# Altium integrated library TI_Logic_Specialty_Logic.IntLib: 2504 symbols (part 81 of 81)
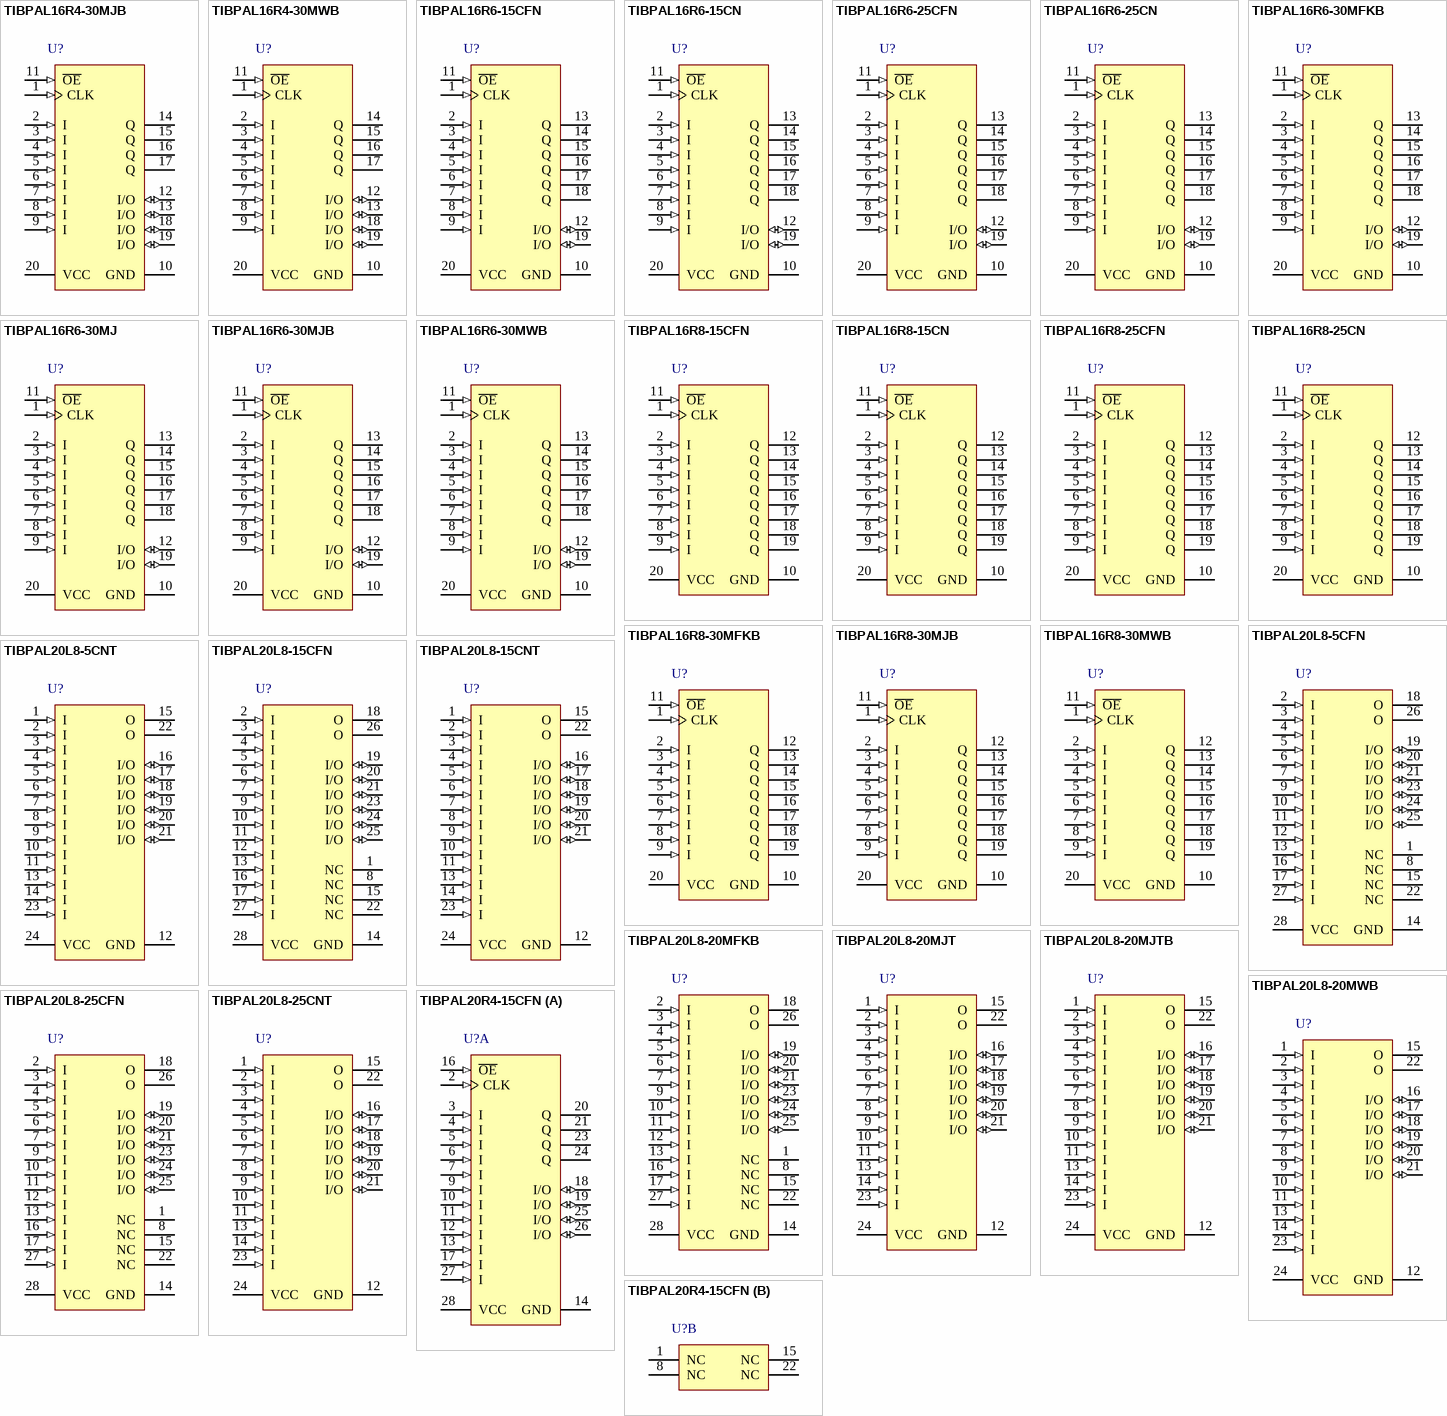
[diagram p184: symbols TIBPAL16R4-30MJB to TIBPAL20R4-15CFN]

## TIBPAL20L8-5CNT
designator U?
High-Performance Impact-X<TM> PAL<R> Circuits, NT0024A, TUBE; Generic Part Number: TIBPAL20L8-5C; Manufacturer: Texas Instruments; PartNumber: TIBPAL20L8-5CNT; DatasheetVersion: SRPS010F; PackageReference: NT0024A; Supplier 1: Mouser; Supplier Part Number 1: 595-TIBPAL20L8-5CNT; Supplier 2: Digi-Key; Supplier Part Number 2: 296-10102-5-ND; Mounting Technology: Through Hole; ComponentLink1Description: Manufacturer URL; ComponentLink1URL: http://www.ti.com/; ComponentLink2Description: Datasheet; ComponentLink2URL: http://www.ti.com/lit/ds/symlink/tibpal20l8-5c.pdf
footprint NT0024A (DIP, 24-Leads, Body 32.05x7.1mm, Pitch 2.54mm)
pins: 1 I (in), 2 I (in), 3 I (in), 4 I (in), 5 I (in), 6 I (in), 7 I (in), 8 I (in), 9 I (in), 10 I (in), 11 I (in), 12 GND (power), 13 I (in), 14 I (in), 15 O (hiz), 16 I/O (io), 17 I/O (io), 18 I/O (io), 19 I/O (io), 20 I/O (io), 21 I/O (io), 22 O (hiz), 23 I (in), 24 VCC (power)

## TIBPAL20L8-15CFN
designator U?
High-Performance Impact<TM> PAL<R> Circuits, FN0028A, TUBE; Generic Part Number: TIBPAL20L8-15C; Manufacturer: Texas Instruments; PartNumber: TIBPAL20L8-15CFN; DatasheetVersion: SRPS021A; PackageReference: FN0028A; Supplier 1: Mouser; Supplier Part Number 1: 595-TIBPAL20L8-15CFN; Supplier 2: Digi-Key; Supplier Part Number 2: 296-10100-5-ND; ComponentLink1Description: Manufacturer URL; ComponentLink1URL: http://www.ti.com/; ComponentLink2Description: Datasheet; ComponentLink2URL: http://www.ti.com/lit/ds/symlink/tibpal20l8-15c.pdf
footprint FN0028A_N (Leaded Chip Carrier, 28-Leads, Body 11.58x11.58mm, Pitch 1.27mm, IPC Medium Density)
footprint FN0028A_M (Leaded Chip Carrier, 28-Leads, Body 11.58x11.58mm, Pitch 1.27mm, IPC Low Density)
footprint FN0028A_L (Leaded Chip Carrier, 28-Leads, Body 11.58x11.58mm, Pitch 1.27mm, IPC High Density)
pins: 1 NC, 2 I (in), 3 I (in), 4 I (in), 5 I (in), 6 I (in), 7 I (in), 8 NC, 9 I (in), 10 I (in), 11 I (in), 12 I (in), 13 I (in), 14 GND (power), 15 NC, 16 I (in), 17 I (in), 18 O (hiz), 19 I/O (io), 20 I/O (io), 21 I/O (io), 22 NC, 23 I/O (io), 24 I/O (io), 25 I/O (io), 26 O (hiz), 27 I (in), 28 VCC (power)

## TIBPAL20L8-15CNT
designator U?
High-Performance Impact<TM> PAL<R> Circuits, NT0024A, TUBE; Generic Part Number: TIBPAL20L8-15C; Manufacturer: Texas Instruments; PartNumber: TIBPAL20L8-15CNT; DatasheetVersion: SRPS021A; PackageReference: NT0024A; Supplier 1: Mouser; Supplier Part Number 1: 595-TIBPAL20L8-15CNT; Supplier 2: Digi-Key; Supplier Part Number 2: 296-26687-5-ND; Mounting Technology: Through Hole; ComponentLink1Description: Manufacturer URL; ComponentLink1URL: http://www.ti.com/; ComponentLink2Description: Datasheet; ComponentLink2URL: http://www.ti.com/lit/ds/symlink/tibpal20l8-15c.pdf
footprint NT0024A (DIP, 24-Leads, Body 32.05x7.1mm, Pitch 2.54mm)
pins: 1 I (in), 2 I (in), 3 I (in), 4 I (in), 5 I (in), 6 I (in), 7 I (in), 8 I (in), 9 I (in), 10 I (in), 11 I (in), 12 GND (power), 13 I (in), 14 I (in), 15 O (hiz), 16 I/O (io), 17 I/O (io), 18 I/O (io), 19 I/O (io), 20 I/O (io), 21 I/O (io), 22 O (hiz), 23 I (in), 24 VCC (power)

## TIBPAL20L8-20MFKB
designator U?
High-Performance Impact<TM> PAL<R> Circuits, FK0028A, TUBE; Generic Part Number: TIBPAL20L8-20M; Manufacturer: Texas Instruments; PartNumber: TIBPAL20L8-20MFKB; Voltage Node(Nom)(V): 5; Rating: Military; DatasheetVersion: SRPS021A; PackageReference: FK0028A; Operating Temperature Range(C): -55 to 125; Code_JEDEC: MS-004; ComponentLink1Description: Manufacturer URL; ComponentLink1URL: http://www.ti.com/; ComponentLink2Description: Datasheet; ComponentLink2URL: http://www.ti.com/lit/ds/symlink/tibpal20l8-20m.pdf; ComponentLink3Description: Package Specification; ComponentLink3URL: http://www.ti.com/lit/ml/mlcc006d/mlcc006d.pdf
footprint FD0028A_N (LCC, 28-Leads, Body 11.43x11.43mm, Pitch 1.27mm, IPC Medium Density)
footprint FD0028A_M (LCC, 28-Leads, Body 11.43x11.43mm, Pitch 1.27mm, IPC Low Density)
footprint FD0028A_L (LCC, 28-Leads, Body 11.43x11.43mm, Pitch 1.27mm, IPC High Density)
pins: 1 NC, 2 I (in), 3 I (in), 4 I (in), 5 I (in), 6 I (in), 7 I (in), 8 NC, 9 I (in), 10 I (in), 11 I (in), 12 I (in), 13 I (in), 14 GND (power), 15 NC, 16 I (in), 17 I (in), 18 O (hiz), 19 I/O (io), 20 I/O (io), 21 I/O (io), 22 NC, 23 I/O (io), 24 I/O (io), 25 I/O (io), 26 O (hiz), 27 I (in), 28 VCC (power)

## TIBPAL20L8-20MJT
designator U?
High-Performance Impact<TM> PAL<R> Circuits, JT0024A, TUBE; Generic Part Number: TIBPAL20L8-20M; Manufacturer: Texas Instruments; PartNumber: TIBPAL20L8-20MJT; Voltage Node(Nom)(V): 5; Rating: Military; DatasheetVersion: SRPS021A; PackageReference: JT0024A; Operating Temperature Range(C): -55 to 125; ComponentLink1Description: Manufacturer URL; ComponentLink1URL: http://www.ti.com/; ComponentLink2Description: Datasheet; ComponentLink2URL: http://www.ti.com/lit/ds/symlink/tibpal20l8-20m.pdf
footprint JT0024A (DIP, 24-Leads, Body 7.2x32.5mm, Pitch 2.54mm)
pins: 1 I (in), 2 I (in), 3 I (in), 4 I (in), 5 I (in), 6 I (in), 7 I (in), 8 I (in), 9 I (in), 10 I (in), 11 I (in), 12 GND (power), 13 I (in), 14 I (in), 15 O (hiz), 16 I/O (io), 17 I/O (io), 18 I/O (io), 19 I/O (io), 20 I/O (io), 21 I/O (io), 22 O (hiz), 23 I (in), 24 VCC (power)

## TIBPAL20L8-20MJTB
designator U?
High-Performance Impact<TM> PAL<R> Circuits, JT0024A, TUBE; Generic Part Number: TIBPAL20L8-20M; Manufacturer: Texas Instruments; PartNumber: TIBPAL20L8-20MJTB; Voltage Node(Nom)(V): 5; Rating: Military; DatasheetVersion: SRPS021A; PackageReference: JT0024A; Operating Temperature Range(C): -55 to 125; ComponentLink1Description: Manufacturer URL; ComponentLink1URL: http://www.ti.com/; ComponentLink2Description: Datasheet; ComponentLink2URL: http://www.ti.com/lit/ds/symlink/tibpal20l8-20m.pdf
footprint JT0024A (DIP, 24-Leads, Body 7.2x32.5mm, Pitch 2.54mm)
pins: 1 I (in), 2 I (in), 3 I (in), 4 I (in), 5 I (in), 6 I (in), 7 I (in), 8 I (in), 9 I (in), 10 I (in), 11 I (in), 12 GND (power), 13 I (in), 14 I (in), 15 O (hiz), 16 I/O (io), 17 I/O (io), 18 I/O (io), 19 I/O (io), 20 I/O (io), 21 I/O (io), 22 O (hiz), 23 I (in), 24 VCC (power)

## TIBPAL20L8-20MWB
designator U?
High-Performance Impact<TM> PAL<R> Circuits, W0024A, TUBE; Generic Part Number: TIBPAL20L8-20M; Manufacturer: Texas Instruments; PartNumber: TIBPAL20L8-20MWB; Voltage Node(Nom)(V): 5; Rating: Military; DatasheetVersion: SRPS021A; PackageReference: W0024A; Operating Temperature Range(C): -55 to 125; ComponentLink1Description: Manufacturer URL; ComponentLink1URL: http://www.ti.com/; ComponentLink2Description: Datasheet; ComponentLink2URL: http://www.ti.com/lit/ds/symlink/tibpal20l8-20m.pdf
footprint W0024A_N (CFP, 24-Leads, Body 16.26x9.53mm, Pitch 1.27mm, IPC Medium Density)
footprint W0024A_M (CFP, 24-Leads, Body 16.26x9.53mm, Pitch 1.27mm, IPC Low Density)
footprint W0024A_L (CFP, 24-Leads, Body 16.26x9.53mm, Pitch 1.27mm, IPC High Density)
pins: 1 I (in), 2 I (in), 3 I (in), 4 I (in), 5 I (in), 6 I (in), 7 I (in), 8 I (in), 9 I (in), 10 I (in), 11 I (in), 12 GND (power), 13 I (in), 14 I (in), 15 O (hiz), 16 I/O (io), 17 I/O (io), 18 I/O (io), 19 I/O (io), 20 I/O (io), 21 I/O (io), 22 O (hiz), 23 I (in), 24 VCC (power)

## TIBPAL20L8-25CFN
designator U?
Low-Power High-Performance Impact<TM> PAL<R> Circuits, FN0028A, TUBE; Generic Part Number: TIBPAL20L8-25C; Manufacturer: Texas Instruments; PartNumber: TIBPAL20L8-25CFN; DatasheetVersion: SRPS022A; PackageReference: FN0028A; Supplier 1: Mouser; Supplier Part Number 1: 595-TIBPAL20L8-25CFN; Supplier 2: Digi-Key; Supplier Part Number 2: 296-34240-5-ND; ComponentLink1Description: Manufacturer URL; ComponentLink1URL: http://www.ti.com/; ComponentLink2Description: Datasheet; ComponentLink2URL: http://www.ti.com/lit/ds/symlink/tibpal20l8-25c.pdf
footprint FN0028A_N (Leaded Chip Carrier, 28-Leads, Body 11.58x11.58mm, Pitch 1.27mm, IPC Medium Density)
footprint FN0028A_M (Leaded Chip Carrier, 28-Leads, Body 11.58x11.58mm, Pitch 1.27mm, IPC Low Density)
footprint FN0028A_L (Leaded Chip Carrier, 28-Leads, Body 11.58x11.58mm, Pitch 1.27mm, IPC High Density)
pins: 1 NC, 2 I (in), 3 I (in), 4 I (in), 5 I (in), 6 I (in), 7 I (in), 8 NC, 9 I (in), 10 I (in), 11 I (in), 12 I (in), 13 I (in), 14 GND (power), 15 NC, 16 I (in), 17 I (in), 18 O (hiz), 19 I/O (io), 20 I/O (io), 21 I/O (io), 22 NC, 23 I/O (io), 24 I/O (io), 25 I/O (io), 26 O (hiz), 27 I (in), 28 VCC (power)

## TIBPAL20L8-25CNT
designator U?
Low-Power High-Performance Impact<TM> PAL<R> Circuits, NT0024A, TUBE; Generic Part Number: TIBPAL20L8-25C; Manufacturer: Texas Instruments; PartNumber: TIBPAL20L8-25CNT; DatasheetVersion: SRPS022A; PackageReference: NT0024A; Supplier 1: Mouser; Supplier Part Number 1: 595-TIBPAL20L8-25CNT; Supplier 2: Digi-Key; Supplier Part Number 2: 296-26688-5-ND; Mounting Technology: Through Hole; ComponentLink1Description: Manufacturer URL; ComponentLink1URL: http://www.ti.com/; ComponentLink2Description: Datasheet; ComponentLink2URL: http://www.ti.com/lit/ds/symlink/tibpal20l8-25c.pdf
footprint NT0024A (DIP, 24-Leads, Body 32.05x7.1mm, Pitch 2.54mm)
pins: 1 I (in), 2 I (in), 3 I (in), 4 I (in), 5 I (in), 6 I (in), 7 I (in), 8 I (in), 9 I (in), 10 I (in), 11 I (in), 12 GND (power), 13 I (in), 14 I (in), 15 O (hiz), 16 I/O (io), 17 I/O (io), 18 I/O (io), 19 I/O (io), 20 I/O (io), 21 I/O (io), 22 O (hiz), 23 I (in), 24 VCC (power)

## TIBPAL20R4-15CFN
designator U?
High-Performance Impact<TM> PAL<R> Circuits, FN0028A, TUBE; Generic Part Number: TIBPAL20R4-15C; Manufacturer: Texas Instruments; PartNumber: TIBPAL20R4-15CFN; DatasheetVersion: SRPS021A; PackageReference: FN0028A; Supplier 1: Mouser; Supplier Part Number 1: 595-TIBPAL20R4-15CFN; Supplier 2: Digi-Key; Supplier Part Number 2: TIBPAL20R4-15CFN-ND; ComponentLink1Description: Manufacturer URL; ComponentLink1URL: http://www.ti.com/; ComponentLink2Description: Datasheet; ComponentLink2URL: http://www.ti.com/lit/ds/symlink/tibpal20r4-15c.pdf
footprint FN0028A_N (Leaded Chip Carrier, 28-Leads, Body 11.58x11.58mm, Pitch 1.27mm, IPC Medium Density)
footprint FN0028A_M (Leaded Chip Carrier, 28-Leads, Body 11.58x11.58mm, Pitch 1.27mm, IPC Low Density)
footprint FN0028A_L (Leaded Chip Carrier, 28-Leads, Body 11.58x11.58mm, Pitch 1.27mm, IPC High Density)
part A pins: 2 CLK (in), 3 I (in), 4 I (in), 5 I (in), 6 I (in), 7 I (in), 9 I (in), 10 I (in), 11 I (in), 12 I (in), 13 I (in), 14 GND (power), 16 ~{OE} (in), 17 I (in), 18 I/O (io), 19 I/O (io), 20 Q (hiz), 21 Q (hiz), 23 Q (hiz), 24 Q (hiz), 25 I/O (io), 26 I/O (io), 27 I (in), 28 VCC (power)
part B pins: 1 NC, 8 NC, 15 NC, 22 NC

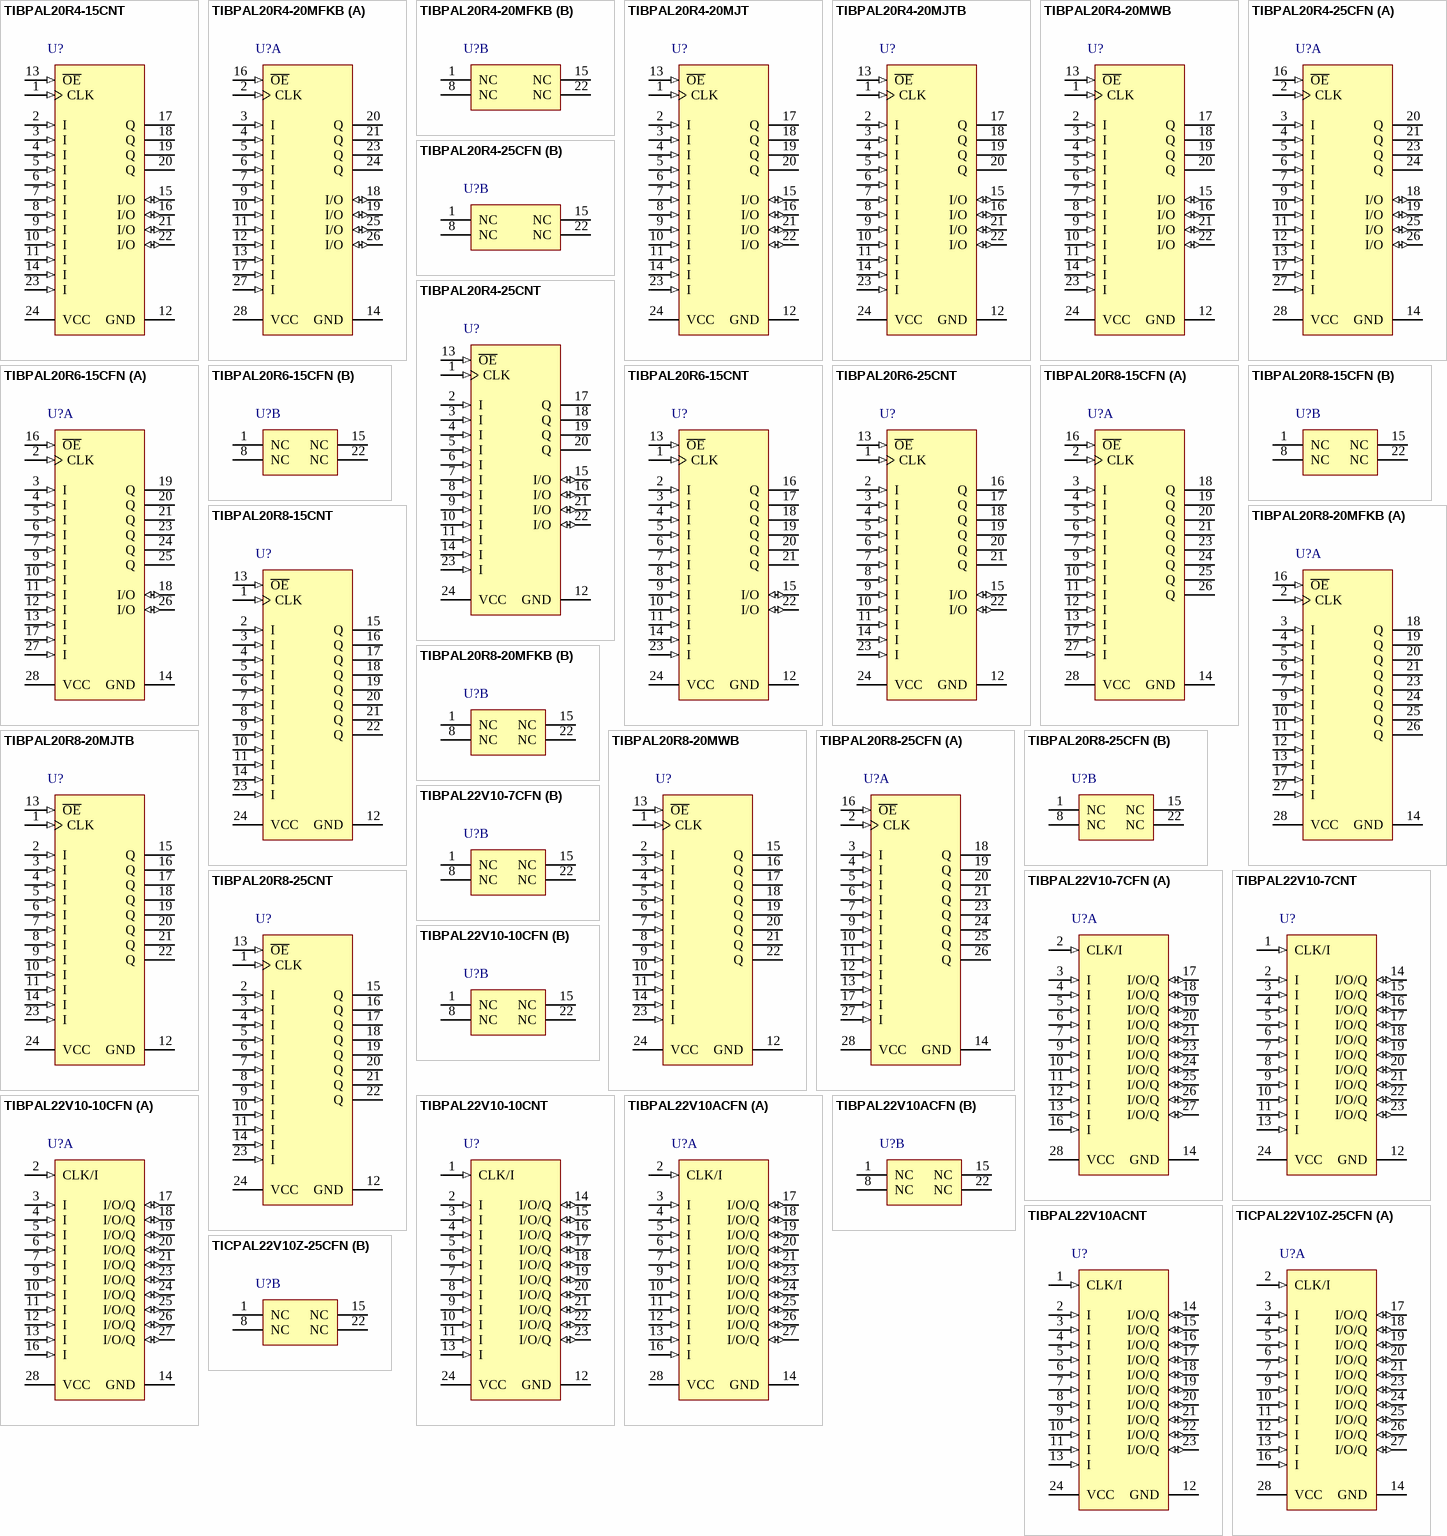
[diagram p103: symbols TIBPAL20R4-15CNT to TICPAL22V10Z-25CFN]

## TIBPAL20R4-15CNT
designator U?
High-Performance Impact<TM> PAL<R> Circuits, NT0024A, TUBE; Generic Part Number: TIBPAL20R4-15C; Manufacturer: Texas Instruments; PartNumber: TIBPAL20R4-15CNT; DatasheetVersion: SRPS021A; PackageReference: NT0024A; Supplier 1: Mouser; Supplier Part Number 1: 595-TIBPAL20R4-15CNT; Supplier 2: Digi-Key; Supplier Part Number 2: 296-10103-5-ND; Mounting Technology: Through Hole; ComponentLink1Description: Manufacturer URL; ComponentLink1URL: http://www.ti.com/; ComponentLink2Description: Datasheet; ComponentLink2URL: http://www.ti.com/lit/ds/symlink/tibpal20r4-15c.pdf
footprint NT0024A (DIP, 24-Leads, Body 32.05x7.1mm, Pitch 2.54mm)
pins: 1 CLK (in), 2 I (in), 3 I (in), 4 I (in), 5 I (in), 6 I (in), 7 I (in), 8 I (in), 9 I (in), 10 I (in), 11 I (in), 12 GND (power), 13 ~{OE} (in), 14 I (in), 15 I/O (io), 16 I/O (io), 17 Q (hiz), 18 Q (hiz), 19 Q (hiz), 20 Q (hiz), 21 I/O (io), 22 I/O (io), 23 I (in), 24 VCC (power)

## TIBPAL20R4-20MFKB
designator U?
High-Performance Impact<TM> PAL<R> Circuits, FK0028A, TUBE; Generic Part Number: TIBPAL20R4-20M; Manufacturer: Texas Instruments; PartNumber: TIBPAL20R4-20MFKB; Voltage Node(Nom)(V): 5; Rating: Military; DatasheetVersion: SRPS021A; PackageReference: FK0028A; Operating Temperature Range(C): -55 to 125; Code_JEDEC: MS-004; ComponentLink1Description: Manufacturer URL; ComponentLink1URL: http://www.ti.com/; ComponentLink2Description: Datasheet; ComponentLink2URL: http://www.ti.com/lit/ds/symlink/tibpal20r4-20m.pdf; ComponentLink3Description: Package Specification; ComponentLink3URL: http://www.ti.com/lit/ml/mlcc006d/mlcc006d.pdf
footprint FD0028A_N (LCC, 28-Leads, Body 11.43x11.43mm, Pitch 1.27mm, IPC Medium Density)
footprint FD0028A_M (LCC, 28-Leads, Body 11.43x11.43mm, Pitch 1.27mm, IPC Low Density)
footprint FD0028A_L (LCC, 28-Leads, Body 11.43x11.43mm, Pitch 1.27mm, IPC High Density)
part A pins: 2 CLK (in), 3 I (in), 4 I (in), 5 I (in), 6 I (in), 7 I (in), 9 I (in), 10 I (in), 11 I (in), 12 I (in), 13 I (in), 14 GND (power), 16 ~{OE} (in), 17 I (in), 18 I/O (io), 19 I/O (io), 20 Q (hiz), 21 Q (hiz), 23 Q (hiz), 24 Q (hiz), 25 I/O (io), 26 I/O (io), 27 I (in), 28 VCC (power)
part B pins: 1 NC, 8 NC, 15 NC, 22 NC

## TIBPAL20R4-20MJT
designator U?
High-Performance Impact<TM> PAL<R> Circuits, JT0024A, TUBE; Generic Part Number: TIBPAL20R4-20M; Manufacturer: Texas Instruments; PartNumber: TIBPAL20R4-20MJT; Voltage Node(Nom)(V): 5; Rating: Military; DatasheetVersion: SRPS021A; PackageReference: JT0024A; Operating Temperature Range(C): -55 to 125; ComponentLink1Description: Manufacturer URL; ComponentLink1URL: http://www.ti.com/; ComponentLink2Description: Datasheet; ComponentLink2URL: http://www.ti.com/lit/ds/symlink/tibpal20r4-20m.pdf
footprint JT0024A (DIP, 24-Leads, Body 7.2x32.5mm, Pitch 2.54mm)
pins: 1 CLK (in), 2 I (in), 3 I (in), 4 I (in), 5 I (in), 6 I (in), 7 I (in), 8 I (in), 9 I (in), 10 I (in), 11 I (in), 12 GND (power), 13 ~{OE} (in), 14 I (in), 15 I/O (io), 16 I/O (io), 17 Q (hiz), 18 Q (hiz), 19 Q (hiz), 20 Q (hiz), 21 I/O (io), 22 I/O (io), 23 I (in), 24 VCC (power)

## TIBPAL20R4-20MJTB
designator U?
High-Performance Impact<TM> PAL<R> Circuits, JT0024A, TUBE; Generic Part Number: TIBPAL20R4-20M; Manufacturer: Texas Instruments; PartNumber: TIBPAL20R4-20MJTB; Voltage Node(Nom)(V): 5; Rating: Military; DatasheetVersion: SRPS021A; PackageReference: JT0024A; Operating Temperature Range(C): -55 to 125; ComponentLink1Description: Manufacturer URL; ComponentLink1URL: http://www.ti.com/; ComponentLink2Description: Datasheet; ComponentLink2URL: http://www.ti.com/lit/ds/symlink/tibpal20r4-20m.pdf
footprint JT0024A (DIP, 24-Leads, Body 7.2x32.5mm, Pitch 2.54mm)
pins: 1 CLK (in), 2 I (in), 3 I (in), 4 I (in), 5 I (in), 6 I (in), 7 I (in), 8 I (in), 9 I (in), 10 I (in), 11 I (in), 12 GND (power), 13 ~{OE} (in), 14 I (in), 15 I/O (io), 16 I/O (io), 17 Q (hiz), 18 Q (hiz), 19 Q (hiz), 20 Q (hiz), 21 I/O (io), 22 I/O (io), 23 I (in), 24 VCC (power)

## TIBPAL20R4-20MWB
designator U?
High-Performance Impact<TM> PAL<R> Circuits, W0024A, TUBE; Generic Part Number: TIBPAL20R4-20M; Manufacturer: Texas Instruments; PartNumber: TIBPAL20R4-20MWB; Voltage Node(Nom)(V): 5; Rating: Military; DatasheetVersion: SRPS021A; PackageReference: W0024A; Operating Temperature Range(C): -55 to 125; ComponentLink1Description: Manufacturer URL; ComponentLink1URL: http://www.ti.com/; ComponentLink2Description: Datasheet; ComponentLink2URL: http://www.ti.com/lit/ds/symlink/tibpal20r4-20m.pdf
footprint W0024A_N (CFP, 24-Leads, Body 16.26x9.53mm, Pitch 1.27mm, IPC Medium Density)
footprint W0024A_M (CFP, 24-Leads, Body 16.26x9.53mm, Pitch 1.27mm, IPC Low Density)
footprint W0024A_L (CFP, 24-Leads, Body 16.26x9.53mm, Pitch 1.27mm, IPC High Density)
pins: 1 CLK (in), 2 I (in), 3 I (in), 4 I (in), 5 I (in), 6 I (in), 7 I (in), 8 I (in), 9 I (in), 10 I (in), 11 I (in), 12 GND (power), 13 ~{OE} (in), 14 I (in), 15 I/O (io), 16 I/O (io), 17 Q (hiz), 18 Q (hiz), 19 Q (hiz), 20 Q (hiz), 21 I/O (io), 22 I/O (io), 23 I (in), 24 VCC (power)

## TIBPAL20R4-25CFN
designator U?
Low-Power High-Performance Impact<TM> PAL<R> Circuits, FN0028A, TUBE; Generic Part Number: TIBPAL20R4-25C; Manufacturer: Texas Instruments; PartNumber: TIBPAL20R4-25CFN; DatasheetVersion: SRPS022A; PackageReference: FN0028A; Supplier 1: Mouser; Supplier Part Number 1: 595-TIBPAL20R4-25CFN; Supplier 2: Digi-Key; Supplier Part Number 2: TIBPAL20R4-25CFN-ND; ComponentLink1Description: Manufacturer URL; ComponentLink1URL: http://www.ti.com/; ComponentLink2Description: Datasheet; ComponentLink2URL: http://www.ti.com/lit/ds/symlink/tibpal20r4-25c.pdf
footprint FN0028A_N (Leaded Chip Carrier, 28-Leads, Body 11.58x11.58mm, Pitch 1.27mm, IPC Medium Density)
footprint FN0028A_M (Leaded Chip Carrier, 28-Leads, Body 11.58x11.58mm, Pitch 1.27mm, IPC Low Density)
footprint FN0028A_L (Leaded Chip Carrier, 28-Leads, Body 11.58x11.58mm, Pitch 1.27mm, IPC High Density)
part A pins: 2 CLK (in), 3 I (in), 4 I (in), 5 I (in), 6 I (in), 7 I (in), 9 I (in), 10 I (in), 11 I (in), 12 I (in), 13 I (in), 14 GND (power), 16 ~{OE} (in), 17 I (in), 18 I/O (io), 19 I/O (io), 20 Q (hiz), 21 Q (hiz), 23 Q (hiz), 24 Q (hiz), 25 I/O (io), 26 I/O (io), 27 I (in), 28 VCC (power)
part B pins: 1 NC, 8 NC, 15 NC, 22 NC

## TIBPAL20R4-25CNT
designator U?
Low-Power High-Performance Impact<TM> PAL<R> Circuits, NT0024A, TUBE; Generic Part Number: TIBPAL20R4-25C; Manufacturer: Texas Instruments; PartNumber: TIBPAL20R4-25CNT; DatasheetVersion: SRPS022A; PackageReference: NT0024A; Supplier 1: Mouser; Supplier Part Number 1: 595-TIBPAL20R4-25CNT; Supplier 2: Digi-Key; Supplier Part Number 2: 296-10104-5-ND; Mounting Technology: Through Hole; ComponentLink1Description: Manufacturer URL; ComponentLink1URL: http://www.ti.com/; ComponentLink2Description: Datasheet; ComponentLink2URL: http://www.ti.com/lit/ds/symlink/tibpal20r4-25c.pdf
footprint NT0024A (DIP, 24-Leads, Body 32.05x7.1mm, Pitch 2.54mm)
pins: 1 CLK (in), 2 I (in), 3 I (in), 4 I (in), 5 I (in), 6 I (in), 7 I (in), 8 I (in), 9 I (in), 10 I (in), 11 I (in), 12 GND (power), 13 ~{OE} (in), 14 I (in), 15 I/O (io), 16 I/O (io), 17 Q (hiz), 18 Q (hiz), 19 Q (hiz), 20 Q (hiz), 21 I/O (io), 22 I/O (io), 23 I (in), 24 VCC (power)

## TIBPAL20R6-15CFN
designator U?
High-Performance Impact<TM> PAL<R> Circuits, FN0028A, TUBE; Generic Part Number: TIBPAL20R6-15C; Manufacturer: Texas Instruments; PartNumber: TIBPAL20R6-15CFN; DatasheetVersion: SRPS021A; PackageReference: FN0028A; Supplier 1: Mouser; Supplier Part Number 1: 595-TIBPAL20R6-15CFN; Supplier 2: Digi-Key; Supplier Part Number 2: TIBPAL20R6-15CFN-ND; ComponentLink1Description: Manufacturer URL; ComponentLink1URL: http://www.ti.com/; ComponentLink2Description: Datasheet; ComponentLink2URL: http://www.ti.com/lit/ds/symlink/tibpal20r6-15c.pdf
footprint FN0028A_N (Leaded Chip Carrier, 28-Leads, Body 11.58x11.58mm, Pitch 1.27mm, IPC Medium Density)
footprint FN0028A_M (Leaded Chip Carrier, 28-Leads, Body 11.58x11.58mm, Pitch 1.27mm, IPC Low Density)
footprint FN0028A_L (Leaded Chip Carrier, 28-Leads, Body 11.58x11.58mm, Pitch 1.27mm, IPC High Density)
part A pins: 2 CLK (in), 3 I (in), 4 I (in), 5 I (in), 6 I (in), 7 I (in), 9 I (in), 10 I (in), 11 I (in), 12 I (in), 13 I (in), 14 GND (power), 16 ~{OE} (in), 17 I (in), 18 I/O (io), 19 Q (hiz), 20 Q (hiz), 21 Q (hiz), 23 Q (hiz), 24 Q (hiz), 25 Q (hiz), 26 I/O (io), 27 I (in), 28 VCC (power)
part B pins: 1 NC, 8 NC, 15 NC, 22 NC

## TIBPAL20R6-15CNT
designator U?
High-Performance Impact<TM> PAL<R> Circuits, NT0024A, TUBE; Generic Part Number: TIBPAL20R6-15C; Manufacturer: Texas Instruments; PartNumber: TIBPAL20R6-15CNT; DatasheetVersion: SRPS021A; PackageReference: NT0024A; Supplier 1: Mouser; Supplier Part Number 1: 595-TIBPAL20R6-15CNT; Supplier 2: Digi-Key; Supplier Part Number 2: 296-34241-5-ND; Mounting Technology: Through Hole; ComponentLink1Description: Manufacturer URL; ComponentLink1URL: http://www.ti.com/; ComponentLink2Description: Datasheet; ComponentLink2URL: http://www.ti.com/lit/ds/symlink/tibpal20r6-15c.pdf
footprint NT0024A (DIP, 24-Leads, Body 32.05x7.1mm, Pitch 2.54mm)
pins: 1 CLK (in), 2 I (in), 3 I (in), 4 I (in), 5 I (in), 6 I (in), 7 I (in), 8 I (in), 9 I (in), 10 I (in), 11 I (in), 12 GND (power), 13 ~{OE} (in), 14 I (in), 15 I/O (io), 16 Q (hiz), 17 Q (hiz), 18 Q (hiz), 19 Q (hiz), 20 Q (hiz), 21 Q (hiz), 22 I/O (io), 23 I (in), 24 VCC (power)

## TIBPAL20R6-25CNT
designator U?
Low-Power High-Performance Impact<TM> PAL<R> Circuits, NT0024A, TUBE; Generic Part Number: TIBPAL20R6-25C; Manufacturer: Texas Instruments; PartNumber: TIBPAL20R6-25CNT; DatasheetVersion: SRPS022A; PackageReference: NT0024A; Supplier 1: Mouser; Supplier Part Number 1: 595-TIBPAL20R6-25CNT; Supplier 2: Digi-Key; Supplier Part Number 2: 296-10108-5-ND; Mounting Technology: Through Hole; ComponentLink1Description: Manufacturer URL; ComponentLink1URL: http://www.ti.com/; ComponentLink2Description: Datasheet; ComponentLink2URL: http://www.ti.com/lit/ds/symlink/tibpal20r6-25c.pdf
footprint NT0024A (DIP, 24-Leads, Body 32.05x7.1mm, Pitch 2.54mm)
pins: 1 CLK (in), 2 I (in), 3 I (in), 4 I (in), 5 I (in), 6 I (in), 7 I (in), 8 I (in), 9 I (in), 10 I (in), 11 I (in), 12 GND (power), 13 ~{OE} (in), 14 I (in), 15 I/O (io), 16 Q (hiz), 17 Q (hiz), 18 Q (hiz), 19 Q (hiz), 20 Q (hiz), 21 Q (hiz), 22 I/O (io), 23 I (in), 24 VCC (power)

## TIBPAL20R8-15CFN
designator U?
High-Performance Impact<TM> PAL<R> Circuits, FN0028A, TUBE; Generic Part Number: TIBPAL20R8-15C; Manufacturer: Texas Instruments; PartNumber: TIBPAL20R8-15CFN; DatasheetVersion: SRPS021A; PackageReference: FN0028A; Supplier 1: Mouser; Supplier Part Number 1: 595-TIBPAL20R8-15CFN; Supplier 2: Digi-Key; Supplier Part Number 2: TIBPAL20R8-15CFN-ND; ComponentLink1Description: Manufacturer URL; ComponentLink1URL: http://www.ti.com/; ComponentLink2Description: Datasheet; ComponentLink2URL: http://www.ti.com/lit/ds/symlink/tibpal20r8-15c.pdf
footprint FN0028A_N (Leaded Chip Carrier, 28-Leads, Body 11.58x11.58mm, Pitch 1.27mm, IPC Medium Density)
footprint FN0028A_M (Leaded Chip Carrier, 28-Leads, Body 11.58x11.58mm, Pitch 1.27mm, IPC Low Density)
footprint FN0028A_L (Leaded Chip Carrier, 28-Leads, Body 11.58x11.58mm, Pitch 1.27mm, IPC High Density)
part A pins: 2 CLK (in), 3 I (in), 4 I (in), 5 I (in), 6 I (in), 7 I (in), 9 I (in), 10 I (in), 11 I (in), 12 I (in), 13 I (in), 14 GND (power), 16 ~{OE} (in), 17 I (in), 18 Q (hiz), 19 Q (hiz), 20 Q (hiz), 21 Q (hiz), 23 Q (hiz), 24 Q (hiz), 25 Q (hiz), 26 Q (hiz), 27 I (in), 28 VCC (power)
part B pins: 1 NC, 8 NC, 15 NC, 22 NC

## TIBPAL20R8-15CNT
designator U?
High-Performance Impact<TM> PAL<R> Circuits, NT0024A, TUBE; Generic Part Number: TIBPAL20R8-15C; Manufacturer: Texas Instruments; PartNumber: TIBPAL20R8-15CNT; DatasheetVersion: SRPS021A; PackageReference: NT0024A; Supplier 1: Mouser; Supplier Part Number 1: 595-TIBPAL20R8-15CNT; Supplier 2: Digi-Key; Supplier Part Number 2: 296-10111-5-ND; Mounting Technology: Through Hole; ComponentLink1Description: Manufacturer URL; ComponentLink1URL: http://www.ti.com/; ComponentLink2Description: Datasheet; ComponentLink2URL: http://www.ti.com/lit/ds/symlink/tibpal20r8-15c.pdf
footprint NT0024A (DIP, 24-Leads, Body 32.05x7.1mm, Pitch 2.54mm)
pins: 1 CLK (in), 2 I (in), 3 I (in), 4 I (in), 5 I (in), 6 I (in), 7 I (in), 8 I (in), 9 I (in), 10 I (in), 11 I (in), 12 GND (power), 13 ~{OE} (in), 14 I (in), 15 Q (hiz), 16 Q (hiz), 17 Q (hiz), 18 Q (hiz), 19 Q (hiz), 20 Q (hiz), 21 Q (hiz), 22 Q (hiz), 23 I (in), 24 VCC (power)

## TIBPAL20R8-20MFKB
designator U?
High-Performance Impact<TM> PAL<R> Circuits, FK0028A, TUBE; Generic Part Number: TIBPAL20R8-20M; Manufacturer: Texas Instruments; PartNumber: TIBPAL20R8-20MFKB; Voltage Node(Nom)(V): 5; Rating: Military; DatasheetVersion: SRPS021A; PackageReference: FK0028A; Operating Temperature Range(C): -55 to 125; Code_JEDEC: MS-004; ComponentLink1Description: Manufacturer URL; ComponentLink1URL: http://www.ti.com/; ComponentLink2Description: Datasheet; ComponentLink2URL: http://www.ti.com/lit/ds/symlink/tibpal20r8-20m.pdf; ComponentLink3Description: Package Specification; ComponentLink3URL: http://www.ti.com/lit/ml/mlcc006d/mlcc006d.pdf
footprint FD0028A_N (LCC, 28-Leads, Body 11.43x11.43mm, Pitch 1.27mm, IPC Medium Density)
footprint FD0028A_M (LCC, 28-Leads, Body 11.43x11.43mm, Pitch 1.27mm, IPC Low Density)
footprint FD0028A_L (LCC, 28-Leads, Body 11.43x11.43mm, Pitch 1.27mm, IPC High Density)
part A pins: 2 CLK (in), 3 I (in), 4 I (in), 5 I (in), 6 I (in), 7 I (in), 9 I (in), 10 I (in), 11 I (in), 12 I (in), 13 I (in), 14 GND (power), 16 ~{OE} (in), 17 I (in), 18 Q (hiz), 19 Q (hiz), 20 Q (hiz), 21 Q (hiz), 23 Q (hiz), 24 Q (hiz), 25 Q (hiz), 26 Q (hiz), 27 I (in), 28 VCC (power)
part B pins: 1 NC, 8 NC, 15 NC, 22 NC

## TIBPAL20R8-20MJTB
designator U?
High-Performance Impact<TM> PAL<R> Circuits, JT0024A, TUBE; Generic Part Number: TIBPAL20R8-20M; Manufacturer: Texas Instruments; PartNumber: TIBPAL20R8-20MJTB; Voltage Node(Nom)(V): 5; Rating: Military; DatasheetVersion: SRPS021A; PackageReference: JT0024A; Operating Temperature Range(C): -55 to 125; ComponentLink1Description: Manufacturer URL; ComponentLink1URL: http://www.ti.com/; ComponentLink2Description: Datasheet; ComponentLink2URL: http://www.ti.com/lit/ds/symlink/tibpal20r8-20m.pdf
footprint JT0024A (DIP, 24-Leads, Body 7.2x32.5mm, Pitch 2.54mm)
pins: 1 CLK (in), 2 I (in), 3 I (in), 4 I (in), 5 I (in), 6 I (in), 7 I (in), 8 I (in), 9 I (in), 10 I (in), 11 I (in), 12 GND (power), 13 ~{OE} (in), 14 I (in), 15 Q (hiz), 16 Q (hiz), 17 Q (hiz), 18 Q (hiz), 19 Q (hiz), 20 Q (hiz), 21 Q (hiz), 22 Q (hiz), 23 I (in), 24 VCC (power)

## TIBPAL20R8-20MWB
designator U?
High-Performance Impact<TM> PAL<R> Circuits, W0024A, TUBE; Generic Part Number: TIBPAL20R8-20M; Manufacturer: Texas Instruments; PartNumber: TIBPAL20R8-20MWB; Voltage Node(Nom)(V): 5; Rating: Military; DatasheetVersion: SRPS021A; PackageReference: W0024A; Operating Temperature Range(C): -55 to 125; ComponentLink1Description: Manufacturer URL; ComponentLink1URL: http://www.ti.com/; ComponentLink2Description: Datasheet; ComponentLink2URL: http://www.ti.com/lit/ds/symlink/tibpal20r8-20m.pdf
footprint W0024A_N (CFP, 24-Leads, Body 16.26x9.53mm, Pitch 1.27mm, IPC Medium Density)
footprint W0024A_M (CFP, 24-Leads, Body 16.26x9.53mm, Pitch 1.27mm, IPC Low Density)
footprint W0024A_L (CFP, 24-Leads, Body 16.26x9.53mm, Pitch 1.27mm, IPC High Density)
pins: 1 CLK (in), 2 I (in), 3 I (in), 4 I (in), 5 I (in), 6 I (in), 7 I (in), 8 I (in), 9 I (in), 10 I (in), 11 I (in), 12 GND (power), 13 ~{OE} (in), 14 I (in), 15 Q (hiz), 16 Q (hiz), 17 Q (hiz), 18 Q (hiz), 19 Q (hiz), 20 Q (hiz), 21 Q (hiz), 22 Q (hiz), 23 I (in), 24 VCC (power)

## TIBPAL20R8-25CFN
designator U?
Low-Power High-Performance Impact<TM> PAL<R> Circuits, FN0028A, TUBE; Generic Part Number: TIBPAL20R8-25C; Manufacturer: Texas Instruments; PartNumber: TIBPAL20R8-25CFN; DatasheetVersion: SRPS022A; PackageReference: FN0028A; Supplier 1: Mouser; Supplier Part Number 1: 595-TIBPAL20R8-25CFN; Supplier 2: Digi-Key; Supplier Part Number 2: 296-10112-5-ND; ComponentLink1Description: Manufacturer URL; ComponentLink1URL: http://www.ti.com/; ComponentLink2Description: Datasheet; ComponentLink2URL: http://www.ti.com/lit/ds/symlink/tibpal20r8-25c.pdf
footprint FN0028A_N (Leaded Chip Carrier, 28-Leads, Body 11.58x11.58mm, Pitch 1.27mm, IPC Medium Density)
footprint FN0028A_M (Leaded Chip Carrier, 28-Leads, Body 11.58x11.58mm, Pitch 1.27mm, IPC Low Density)
footprint FN0028A_L (Leaded Chip Carrier, 28-Leads, Body 11.58x11.58mm, Pitch 1.27mm, IPC High Density)
part A pins: 2 CLK (in), 3 I (in), 4 I (in), 5 I (in), 6 I (in), 7 I (in), 9 I (in), 10 I (in), 11 I (in), 12 I (in), 13 I (in), 14 GND (power), 16 ~{OE} (in), 17 I (in), 18 Q (hiz), 19 Q (hiz), 20 Q (hiz), 21 Q (hiz), 23 Q (hiz), 24 Q (hiz), 25 Q (hiz), 26 Q (hiz), 27 I (in), 28 VCC (power)
part B pins: 1 NC, 8 NC, 15 NC, 22 NC

## TIBPAL20R8-25CNT
designator U?
Low-Power High-Performance Impact<TM> PAL<R> Circuits, NT0024A, TUBE; Generic Part Number: TIBPAL20R8-25C; Manufacturer: Texas Instruments; PartNumber: TIBPAL20R8-25CNT; DatasheetVersion: SRPS022A; PackageReference: NT0024A; Supplier 1: Mouser; Supplier Part Number 1: 595-TIBPAL20R8-25CNT; Supplier 2: Digi-Key; Supplier Part Number 2: 296-10113-5-ND; Mounting Technology: Through Hole; ComponentLink1Description: Manufacturer URL; ComponentLink1URL: http://www.ti.com/; ComponentLink2Description: Datasheet; ComponentLink2URL: http://www.ti.com/lit/ds/symlink/tibpal20r8-25c.pdf
footprint NT0024A (DIP, 24-Leads, Body 32.05x7.1mm, Pitch 2.54mm)
pins: 1 CLK (in), 2 I (in), 3 I (in), 4 I (in), 5 I (in), 6 I (in), 7 I (in), 8 I (in), 9 I (in), 10 I (in), 11 I (in), 12 GND (power), 13 ~{OE} (in), 14 I (in), 15 Q (hiz), 16 Q (hiz), 17 Q (hiz), 18 Q (hiz), 19 Q (hiz), 20 Q (hiz), 21 Q (hiz), 22 Q (hiz), 23 I (in), 24 VCC (power)

## TIBPAL22V10-7CFN
designator U?
Programmable Array Logic, FN0028A, TUBE; Generic Part Number: TIBPAL22V10-7C; Manufacturer: Texas Instruments; PartNumber: TIBPAL22V10-7CFN; DatasheetVersion: SRPS014E; PackageReference: FN0028A; Supplier 1: Mouser; Supplier Part Number 1: 595-TIBPAL22V10-7CFN; Supplier 2: Digi-Key; Supplier Part Number 2: 296-10119-5-ND; ComponentLink1Description: Manufacturer URL; ComponentLink1URL: http://www.ti.com/; ComponentLink2Description: Datasheet; ComponentLink2URL: http://www.ti.com/lit/ds/symlink/tibpal22v10-7c.pdf
footprint FN0028A_N (Leaded Chip Carrier, 28-Leads, Body 11.58x11.58mm, Pitch 1.27mm, IPC Medium Density)
footprint FN0028A_M (Leaded Chip Carrier, 28-Leads, Body 11.58x11.58mm, Pitch 1.27mm, IPC Low Density)
footprint FN0028A_L (Leaded Chip Carrier, 28-Leads, Body 11.58x11.58mm, Pitch 1.27mm, IPC High Density)
part A pins: 2 CLK/I (in), 3 I (in), 4 I (in), 5 I (in), 6 I (in), 7 I (in), 9 I (in), 10 I (in), 11 I (in), 12 I (in), 13 I (in), 14 GND (power), 16 I (in), 17 I/O/Q (io), 18 I/O/Q (io), 19 I/O/Q (io), 20 I/O/Q (io), 21 I/O/Q (io), 23 I/O/Q (io), 24 I/O/Q (io), 25 I/O/Q (io), 26 I/O/Q (io), 27 I/O/Q (io), 28 VCC (power)
part B pins: 1 NC, 8 NC, 15 NC, 22 NC

## TIBPAL22V10-7CNT
designator U?
Programmable Array Logic, NTG0024A, TUBE; Generic Part Number: TIBPAL22V10-7C; Manufacturer: Texas Instruments; PartNumber: TIBPAL22V10-7CNT; DatasheetVersion: SRPS014E; PackageReference: NTG0024A; Supplier 1: Mouser; Supplier Part Number 1: 595-TIBPAL22V10-7CNT; Supplier 2: Digi-Key; Supplier Part Number 2: 296-10120-5-ND; ComponentLink1Description: Manufacturer URL; ComponentLink1URL: http://www.ti.com/; ComponentLink2Description: Datasheet; ComponentLink2URL: http://www.ti.com/lit/ds/symlink/tibpal22v10-7c.pdf
footprint NTG0024A (DIP, 24-Leads, Body 30.7x6.605mm, Pitch 2.54mm)
pins: 1 CLK/I (in), 2 I (in), 3 I (in), 4 I (in), 5 I (in), 6 I (in), 7 I (in), 8 I (in), 9 I (in), 10 I (in), 11 I (in), 12 GND (power), 13 I (in), 14 I/O/Q (io), 15 I/O/Q (io), 16 I/O/Q (io), 17 I/O/Q (io), 18 I/O/Q (io), 19 I/O/Q (io), 20 I/O/Q (io), 21 I/O/Q (io), 22 I/O/Q (io), 23 I/O/Q (io), 24 VCC (power)

## TIBPAL22V10-10CFN
designator U?
High-Performance Impact-X<TM> Programmable Array Logic Circuits, FN0028A, TUBE; Generic Part Number: TIBPAL22V10-10C; Manufacturer: Texas Instruments; PartNumber: TIBPAL22V10-10CFN; DatasheetVersion: SRPS015A; PackageReference: FN0028A; Supplier 1: Mouser; Supplier Part Number 1: 595-TIBPAL22V1010CFN; Supplier 2: Digi-Key; Supplier Part Number 2: 296-10115-5-ND; ComponentLink1Description: Manufacturer URL; ComponentLink1URL: http://www.ti.com/; ComponentLink2Description: Datasheet; ComponentLink2URL: http://www.ti.com/lit/ds/symlink/tibpal22v10-10c.pdf
footprint FN0028A_N (Leaded Chip Carrier, 28-Leads, Body 11.58x11.58mm, Pitch 1.27mm, IPC Medium Density)
footprint FN0028A_M (Leaded Chip Carrier, 28-Leads, Body 11.58x11.58mm, Pitch 1.27mm, IPC Low Density)
footprint FN0028A_L (Leaded Chip Carrier, 28-Leads, Body 11.58x11.58mm, Pitch 1.27mm, IPC High Density)
part A pins: 2 CLK/I (in), 3 I (in), 4 I (in), 5 I (in), 6 I (in), 7 I (in), 9 I (in), 10 I (in), 11 I (in), 12 I (in), 13 I (in), 14 GND (power), 16 I (in), 17 I/O/Q (io), 18 I/O/Q (io), 19 I/O/Q (io), 20 I/O/Q (io), 21 I/O/Q (io), 23 I/O/Q (io), 24 I/O/Q (io), 25 I/O/Q (io), 26 I/O/Q (io), 27 I/O/Q (io), 28 VCC (power)
part B pins: 1 NC, 8 NC, 15 NC, 22 NC

## TIBPAL22V10-10CNT
designator U?
High-Performance Impact-X<TM> Programmable Array Logic Circuits, NTG0024A, TUBE; Generic Part Number: TIBPAL22V10-10C; Manufacturer: Texas Instruments; PartNumber: TIBPAL22V10-10CNT; DatasheetVersion: SRPS015A; PackageReference: NTG0024A; Supplier 1: Mouser; Supplier Part Number 1: 595-TIBPAL22V1010CNT; Supplier 2: Digi-Key; Supplier Part Number 2: 296-10116-5-ND; ComponentLink1Description: Manufacturer URL; ComponentLink1URL: http://www.ti.com/; ComponentLink2Description: Datasheet; ComponentLink2URL: http://www.ti.com/lit/ds/symlink/tibpal22v10-10c.pdf
footprint NTG0024A (DIP, 24-Leads, Body 30.7x6.605mm, Pitch 2.54mm)
pins: 1 CLK/I (in), 2 I (in), 3 I (in), 4 I (in), 5 I (in), 6 I (in), 7 I (in), 8 I (in), 9 I (in), 10 I (in), 11 I (in), 12 GND (power), 13 I (in), 14 I/O/Q (io), 15 I/O/Q (io), 16 I/O/Q (io), 17 I/O/Q (io), 18 I/O/Q (io), 19 I/O/Q (io), 20 I/O/Q (io), 21 I/O/Q (io), 22 I/O/Q (io), 23 I/O/Q (io), 24 VCC (power)

## TIBPAL22V10ACFN
designator U?
High-Performance Impact<TM> Programmable Array Logic Circuits, FN0028A, TUBE; Generic Part Number: TIBPAL22V10AC; Manufacturer: Texas Instruments; PartNumber: TIBPAL22V10ACFN; DatasheetVersion: SRPS024A; PackageReference: FN0028A; Supplier 1: Mouser; Supplier Part Number 1: 595-TIBPAL22V10ACFN; Supplier 2: Digi-Key; Supplier Part Number 2: 296-34242-5-ND; ComponentLink1Description: Manufacturer URL; ComponentLink1URL: http://www.ti.com/; ComponentLink2Description: Datasheet; ComponentLink2URL: http://www.ti.com/lit/ds/symlink/tibpal22v10ac.pdf
footprint FN0028A_N (Leaded Chip Carrier, 28-Leads, Body 11.58x11.58mm, Pitch 1.27mm, IPC Medium Density)
footprint FN0028A_M (Leaded Chip Carrier, 28-Leads, Body 11.58x11.58mm, Pitch 1.27mm, IPC Low Density)
footprint FN0028A_L (Leaded Chip Carrier, 28-Leads, Body 11.58x11.58mm, Pitch 1.27mm, IPC High Density)
part A pins: 2 CLK/I (in), 3 I (in), 4 I (in), 5 I (in), 6 I (in), 7 I (in), 9 I (in), 10 I (in), 11 I (in), 12 I (in), 13 I (in), 14 GND (power), 16 I (in), 17 I/O/Q (io), 18 I/O/Q (io), 19 I/O/Q (io), 20 I/O/Q (io), 21 I/O/Q (io), 23 I/O/Q (io), 24 I/O/Q (io), 25 I/O/Q (io), 26 I/O/Q (io), 27 I/O/Q (io), 28 VCC (power)
part B pins: 1 NC, 8 NC, 15 NC, 22 NC

## TIBPAL22V10ACNT
designator U?
High-Performance Impact<TM> Programmable Array Logic Circuits, NTG0024A, TUBE; Generic Part Number: TIBPAL22V10AC; Manufacturer: Texas Instruments; PartNumber: TIBPAL22V10ACNT; DatasheetVersion: SRPS024A; PackageReference: NTG0024A; Supplier 1: Mouser; Supplier Part Number 1: 595-TIBPAL22V10ACNT; Supplier 2: Digi-Key; Supplier Part Number 2: 296-26689-5-ND; ComponentLink1Description: Manufacturer URL; ComponentLink1URL: http://www.ti.com/; ComponentLink2Description: Datasheet; ComponentLink2URL: http://www.ti.com/lit/ds/symlink/tibpal22v10ac.pdf
footprint NTG0024A (DIP, 24-Leads, Body 30.7x6.605mm, Pitch 2.54mm)
pins: 1 CLK/I (in), 2 I (in), 3 I (in), 4 I (in), 5 I (in), 6 I (in), 7 I (in), 8 I (in), 9 I (in), 10 I (in), 11 I (in), 12 GND (power), 13 I (in), 14 I/O/Q (io), 15 I/O/Q (io), 16 I/O/Q (io), 17 I/O/Q (io), 18 I/O/Q (io), 19 I/O/Q (io), 20 I/O/Q (io), 21 I/O/Q (io), 22 I/O/Q (io), 23 I/O/Q (io), 24 VCC (power)

## TICPAL22V10Z-25CFN
designator U?
EPIC<TM> CMOS Programmable Array Logic Circuits, FN0028A, TUBE; Generic Part Number: TICPAL22V10Z-25C; Manufacturer: Texas Instruments; PartNumber: TICPAL22V10Z-25CFN; Rating: Catalog; DatasheetVersion: SRPS007D; PackageReference: FN0028A; Supplier 1: Mouser; Supplier Part Number 1: 595-TICPAL22V1025CFN; Supplier 2: Digi-Key; Supplier Part Number 2: 296-10122-5-ND; Operating Temperature Range(C): 0 to 75; ComponentLink1Description: Manufacturer URL; ComponentLink1URL: http://www.ti.com/; ComponentLink2Description: Datasheet; ComponentLink2URL: http://www.ti.com/lit/ds/symlink/ticpal22v10z-25c.pdf
footprint FN0028A_N (Leaded Chip Carrier, 28-Leads, Body 11.58x11.58mm, Pitch 1.27mm, IPC Medium Density)
footprint FN0028A_M (Leaded Chip Carrier, 28-Leads, Body 11.58x11.58mm, Pitch 1.27mm, IPC Low Density)
footprint FN0028A_L (Leaded Chip Carrier, 28-Leads, Body 11.58x11.58mm, Pitch 1.27mm, IPC High Density)
part A pins: 2 CLK/I (in), 3 I (in), 4 I (in), 5 I (in), 6 I (in), 7 I (in), 9 I (in), 10 I (in), 11 I (in), 12 I (in), 13 I (in), 14 GND (power), 16 I (in), 17 I/O/Q (io), 18 I/O/Q (io), 19 I/O/Q (io), 20 I/O/Q (io), 21 I/O/Q (io), 23 I/O/Q (io), 24 I/O/Q (io), 25 I/O/Q (io), 26 I/O/Q (io), 27 I/O/Q (io), 28 VCC (power)
part B pins: 1 NC, 8 NC, 15 NC, 22 NC

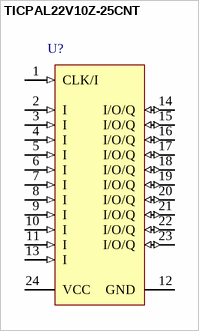
[diagram p104: symbol TICPAL22V10Z-25CNT]

## TICPAL22V10Z-25CNT
designator U?
EPIC<TM> CMOS Programmable Array Logic Circuits, NTG0024A, TUBE; Generic Part Number: TICPAL22V10Z-25C; Manufacturer: Texas Instruments; PartNumber: TICPAL22V10Z-25CNT; Rating: Catalog; DatasheetVersion: SRPS007D; PackageReference: NTG0024A; Supplier 1: Mouser; Supplier Part Number 1: 595-TICPAL22V10Z-25C; Supplier 2: Digi-Key; Supplier Part Number 2: 296-10123-5-ND; Operating Temperature Range(C): 0 to 75; ComponentLink1Description: Manufacturer URL; ComponentLink1URL: http://www.ti.com/; ComponentLink2Description: Datasheet; ComponentLink2URL: http://www.ti.com/lit/ds/symlink/ticpal22v10z-25c.pdf
footprint NTG0024A (DIP, 24-Leads, Body 30.7x6.605mm, Pitch 2.54mm)
pins: 1 CLK/I (in), 2 I (in), 3 I (in), 4 I (in), 5 I (in), 6 I (in), 7 I (in), 8 I (in), 9 I (in), 10 I (in), 11 I (in), 12 GND (power), 13 I (in), 14 I/O/Q (io), 15 I/O/Q (io), 16 I/O/Q (io), 17 I/O/Q (io), 18 I/O/Q (io), 19 I/O/Q (io), 20 I/O/Q (io), 21 I/O/Q (io), 22 I/O/Q (io), 23 I/O/Q (io), 24 VCC (power)